# Altium schematic symbol library SparkFun-DiscreteSemi.SCHLIB: 14 symbols
Pins are listed as number, name and electrical type; pins without a type are passive.

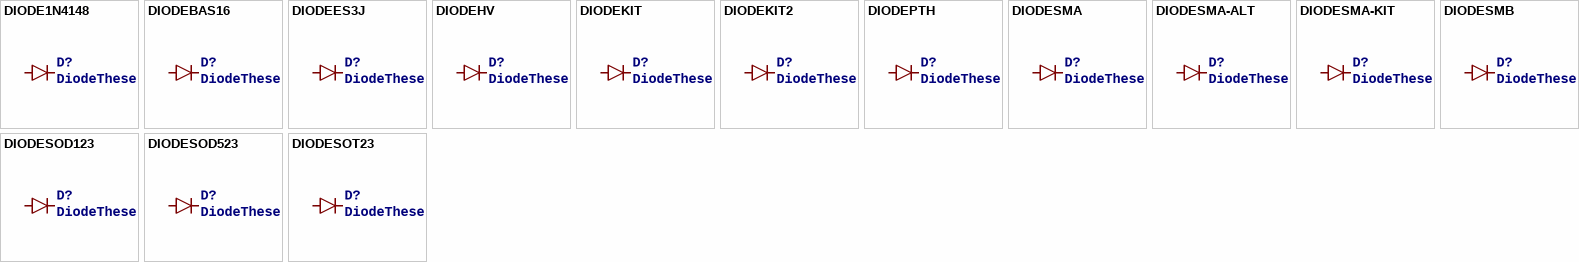
[diagram p0: symbols DIODE1N4148 to DIODESOT23]

## DIODE1N4148
designator D?, comment DiodeThese are standard reverse protection diodes and small signal diodes. SMA package can handle up to about 1A. SOD-323 can handle about 200mA. What the SOD-323 package when ordering, there are some mfgs out there that are 5-pin packages.
footprint DIODE-1N4148
pins: A, C

## DIODEBAS16
designator D?, comment DiodeThese are standard reverse protection diodes and small signal diodes. SMA package can handle up to about 1A. SOD-323 can handle about 200mA. What the SOD-323 package when ordering, there are some mfgs out there that are 5-pin packages.
PROD_ID: DIO-09646
footprint SOD-323
pins: A, C

## DIODEES3J
designator D?, comment DiodeThese are standard reverse protection diodes and small signal diodes. SMA package can handle up to about 1A. SOD-323 can handle about 200mA. What the SOD-323 package when ordering, there are some mfgs out there that are 5-pin packages.
PROD_ID: DIO-12441
footprint SMC
pins: A, C

## DIODEHV
designator D?, comment DiodeThese are standard reverse protection diodes and small signal diodes. SMA package can handle up to about 1A. SOD-323 can handle about 200mA. What the SOD-323 package when ordering, there are some mfgs out there that are 5-pin packages.
footprint DIODE-HV
pins: A, C

## DIODEKIT
designator D?, comment DiodeThese are standard reverse protection diodes and small signal diodes. SMA package can handle up to about 1A. SOD-323 can handle about 200mA. What the SOD-323 package when ordering, there are some mfgs out there that are 5-pin packages.
footprint DIODE-1N4148-KIT
pins: A, C

## DIODEKIT2
designator D?, comment DiodeThese are standard reverse protection diodes and small signal diodes. SMA package can handle up to about 1A. SOD-323 can handle about 200mA. What the SOD-323 package when ordering, there are some mfgs out there that are 5-pin packages.
footprint DIODE-1N4001-KIT
pins: A, C

## DIODEPTH
designator D?, comment DiodeThese are standard reverse protection diodes and small signal diodes. SMA package can handle up to about 1A. SOD-323 can handle about 200mA. What the SOD-323 package when ordering, there are some mfgs out there that are 5-pin packages.
footprint DIODE-1N4001
pins: A, C

## DIODESMA
designator D?, comment DiodeThese are standard reverse protection diodes and small signal diodes. SMA package can handle up to about 1A. SOD-323 can handle about 200mA. What the SOD-323 package when ordering, there are some mfgs out there that are 5-pin packages.
footprint SMA-DIODE
pins: A, C

## DIODESMA-ALT
designator D?, comment DiodeThese are standard reverse protection diodes and small signal diodes. SMA package can handle up to about 1A. SOD-323 can handle about 200mA. What the SOD-323 package when ordering, there are some mfgs out there that are 5-pin packages.
footprint SMA-DIODE_ALT
pins: A, C

## DIODESMA-KIT
designator D?, comment DiodeThese are standard reverse protection diodes and small signal diodes. SMA package can handle up to about 1A. SOD-323 can handle about 200mA. What the SOD-323 package when ordering, there are some mfgs out there that are 5-pin packages.
footprint SMA-DIODE-KIT
pins: A, C

## DIODESMB
designator D?, comment DiodeThese are standard reverse protection diodes and small signal diodes. SMA package can handle up to about 1A. SOD-323 can handle about 200mA. What the SOD-323 package when ordering, there are some mfgs out there that are 5-pin packages.
PROD_ID: DIO-09646
footprint SMB-DIODE
pins: A, C

## DIODESOD123
designator D?, comment DiodeThese are standard reverse protection diodes and small signal diodes. SMA package can handle up to about 1A. SOD-323 can handle about 200mA. What the SOD-323 package when ordering, there are some mfgs out there that are 5-pin packages.
footprint SOD-123
pins: A, C

## DIODESOD523
designator D?, comment DiodeThese are standard reverse protection diodes and small signal diodes. SMA package can handle up to about 1A. SOD-323 can handle about 200mA. What the SOD-323 package when ordering, there are some mfgs out there that are 5-pin packages.
footprint SOD523
pins: A, C

## DIODESOT23
designator D?, comment DiodeThese are standard reverse protection diodes and small signal diodes. SMA package can handle up to about 1A. SOD-323 can handle about 200mA. What the SOD-323 package when ordering, there are some mfgs out there that are 5-pin packages.
footprint SOT23-3
pins: 1 A, 3 C